# EAGLE library part BQ2058T (library Rizeni dvirek)
CHARGE MANAGEMENT IC
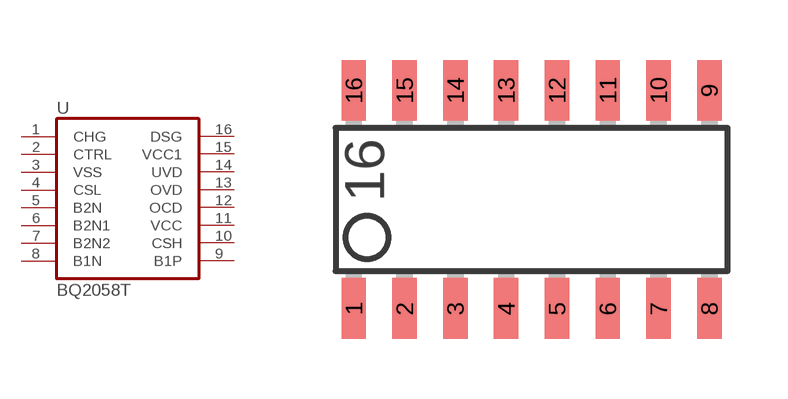
[diagram p2: symbol with the pads of SO-16; footprint SO-16]

Designator prefix U

## BQ2058T  [SO-16]
1  CHG  hiz
2  CTRL  in
3  VSS  pwr
4  CSL  in
5  B2N  in
6  B2N1  in
7  B2N2  in
8  B1N  in
9  B1P  in
10  CSH  in
11  VCC  pwr
12  OCD  in
13  OVD  in
14  UVD  in
15  VCC1  pwr
16  DSG  out

## Footprint SO-16 (pad centres in mm)
Small Outline Integrated Circuit
smd 0.61 x 1.524: 1 -4.445,-2.794; 2 -3.175,-2.794; 3 -1.905,-2.794; 4 -0.635,-2.794; 5 0.635,-2.794; 6 1.905,-2.794; 7 3.175,-2.794; 8 4.445,-2.794; 9 4.445,2.667; 10 3.175,2.667; 11 1.905,2.667; 12 0.635,2.667; 13 -0.635,2.667; 14 -1.905,2.667; 15 -3.175,2.667; 16 -4.445,2.667